# Altium schematic symbol library ADI.SchLib: 7 symbols
Pins are listed as number, name and electrical type; pins without a type are passive.

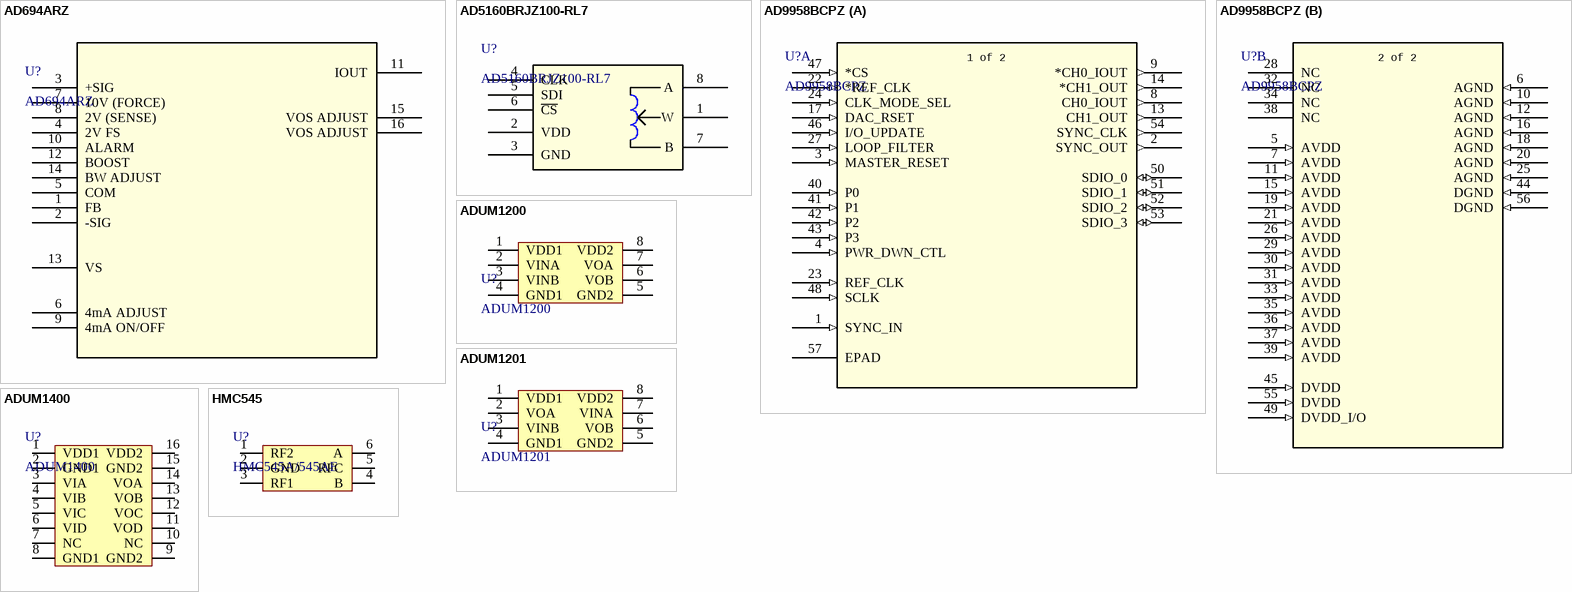
[diagram p0: symbols AD694ARZ to HMC545]

## AD694ARZ
designator U?
4–20 mA Transmitter; Built_By: EMA_UL_Team; Vendor: Analog Devices Inc; SourceLibrary: Analog_2012-01-01_3; Manufacturer_Part_Number: AD694ARZ; Copyright: Copyright (C) 2021 Accelerated Designs. All rights reserved; RefDes: RefDes; Type: DEV
footprint RW_16_ADI
footprint RW_16_ADI-L
footprint RW_16_ADI-M
pins: 1 FB, 2 -SIG, 3 +SIG, 4 2V FS, 5 COM, 6 4mA ADJUST, 7 10V (FORCE), 8 2V (SENSE), 9 4mA ON/OFF, 10 ALARM, 11 IOUT, 12 BOOST, 13 VS (power), 14 BW ADJUST, 15 VOS ADJUST, 16 VOS ADJUST

## AD5160BRJZ100-RL7
designator U?
256位、SPI兼容型 数字电位计; Mfr_Name: Analog Devices Inc; Copyright: Copyright (C) 2021 Ultra Librarian. All rights reserved.; Manufacturer_Part_Number: AD5160BRJZ100-RL7; RefDes: RefDes; Type: DEV
footprint RJ_8_ADI
footprint RJ_8_ADI-L
footprint RJ_8_ADI-M
pins: 1 W, 2 VDD (power), 3 GND, 4 CLK, 5 SDI, 6 ~{CS}, 7 B, 8 A

## AD9958BCPZ
designator U?
2-Channel, 500 MSPS DDS with 10-Bit DACs; SourceLibrary: Analog_2015-01-06; Built_By: EMA_UL_Team; Vendor: Analog Devices Inc; Manufacturer_Part_Number: AD9958BCPZ; Copyright: Copyright (C) 2018 Accelerated Designs. All rights reserved; RefDes: RefDes; Type: DEV; Value: Value
footprint CP_56_1_ADI
footprint CP_56_1_ADI-L
footprint CP_56_1_ADI-M
part A pins: 1 SYNC_IN (in), 2 SYNC_OUT (out), 3 MASTER_RESET (in), 4 PWR_DWN_CTL (in), 8 CH0_IOUT (out), 9 *CH0_IOUT (out), 13 CH1_OUT (out), 14 *CH1_OUT (out), 17 DAC_RSET (in), 22 *REF_CLK (in), 23 REF_CLK (in), 24 CLK_MODE_SEL (in), 27 LOOP_FILTER (in), 40 P0 (in), 41 P1 (in), 42 P2 (in), 43 P3 (in), 46 I/O_UPDATE (in), 47 *CS (in), 48 SCLK (in), 50 SDIO_0 (io), 51 SDIO_1 (io), 52 SDIO_2 (io), 53 SDIO_3 (io), 54 SYNC_CLK (out), 57 EPAD
part B pins: 5 AVDD (in), 6 AGND (in), 7 AVDD (in), 10 AGND (in), 11 AVDD (in), 12 AGND (in), 15 AVDD (in), 16 AGND (in), 18 AGND (in), 19 AVDD (in), 20 AGND (in), 21 AVDD (in), 25 AGND (in), 26 AVDD (in), 28 NC, 29 AVDD (in), 30 AVDD (in), 31 AVDD (in), 32 NC, 33 AVDD (in), 34 NC, 35 AVDD (in), 36 AVDD (in), 37 AVDD (in), 38 NC, 39 AVDD (in), 44 DGND (in), 45 DVDD (in), 49 DVDD_I/O (in), 55 DVDD (in), 56 DGND (in)
part A text: 1 of 2
part B text: 2 of 2

## ADUM1200
designator U?
双通道数字隔离器
footprint SOP8_L (5*6*1.8mm（长宽高）)
footprint SOP8_M (5*6*1.8mm（长宽高）)
footprint SOP8_N (5*6*1.8mm（长宽高）)
pins: 1 VDD1, 2 VINA, 3 VINB, 4 GND1, 5 GND2, 6 VOB, 7 VOA, 8 VDD2

## ADUM1201
designator U?
双通道数字隔离器
footprint SOP8_L (5*6*1.8mm（长宽高）)
footprint SOP8_M (5*6*1.8mm（长宽高）)
footprint SOP8_N (5*6*1.8mm（长宽高）)
pins: 1 VDD1, 2 VOA, 3 VINB, 4 GND1, 5 GND2, 6 VOB, 7 VINA, 8 VDD2

## ADUM1400
designator U?
Quad-Channel Digital Isolators
footprint SOP16W_L (10.3*10.3*2.6mm（长宽高）)
footprint SOP16W_M (10.3*10.3*2.6mm（长宽高）)
footprint SOP16W_N (10.3*10.3*2.6mm（长宽高）)
pins: 1 VDD1, 2 GND1, 3 VIA, 4 VIB, 5 VIC, 6 VID, 7 NC, 8 GND1, 9 GND2, 10 NC, 11 VOD, 12 VOC, 13 VOB, 14 VOA, 15 GND2, 16 VDD2

## HMC545
designator U?, comment HMC545A/545AE
GaAs MMIC SPDT / SWITCH, DC - 3 GHz
footprint SOT23-6L (3x1.6x1.1mm(长宽高))
footprint SOT23-6M (3x1.6x1.1mm(长宽高))
footprint SOT23-6N (3x1.6x1.1mm(长宽高))
pins: 1 RF2, 2 GND, 3 RF1, 4 B, 5 RFC, 6 A